# Altium schematic symbol library sen_res_5931.SchLib: 1 symbol
Pins are listed as number, name and electrical type; pins without a type are passive.

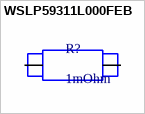
[diagram p0: symbol WSLP59311L000FEB]

## WSLP59311L000FEB
designator R?, comment 1mOhm
3 mOhms Â±1% 7W Chip Resistor Nonstandard Anti-Sulfur, Automotive AEC-Q200, Current Sense, Moisture Resistant, Pulse Withstanding Metal Element; MP: WSLP59313L000FEB; MF: Vishay Dale; Price: None; Package: 5931 Vishay Dale; Value: *; Availability: Unavailable; SnapEDA_Link: https://www.snapeda.com/parts/WSLP59313L000FEB/Vishay%20Dale/view-part/229340/?ref=snap
footprint VISHAY_WSLP59313L000FEB
pins: 1, 2